# EAGLE library part MICRO_FIT_3.0_12_POS_RA (library UBCSolar)
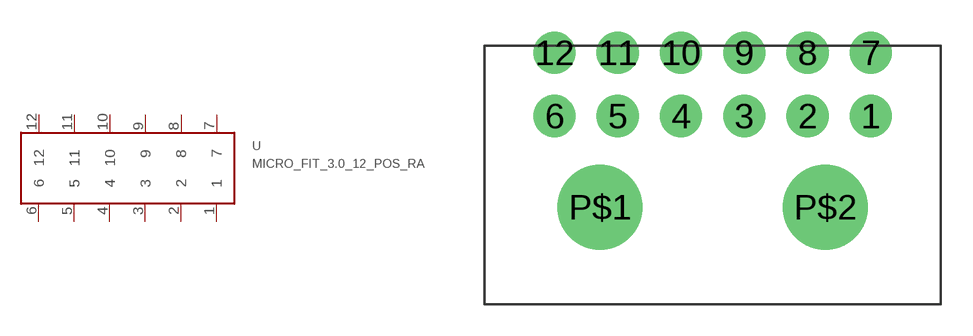
[diagram p9: symbol with the pads of MICRO_FIT_3.0_12POS_RA; footprint MICRO_FIT_3.0_12POS_RA]

Designator prefix -

## MICRO_FIT_3.0_12_POS_RA  [MICRO_FIT_3.0_12POS_RA]
1  1
2  2
3  3
4  4
5  5
6  6
7  7
8  8
9  9
10  10
11  11
12  12

## Footprint MICRO_FIT_3.0_12POS_RA (pad centres in mm)
Micro-Fit 3.0 12pos, right angle: https://www.digikey.ca/product-detail/en/4-794619-2/A115204-ND/2286935/?itemSeq=291249305
drill 1.02 pad 2: 1 7.5,-1.5; 2 4.5,-1.5; 3 1.5,-1.5; 4 -1.5,-1.5; 5 -4.5,-1.5; 6 -7.5,-1.5; 7 7.5,1.5; 8 4.5,1.5; 9 1.5,1.5; 10 -1.5,1.5; 11 -4.5,1.5; 12 -7.5,1.5
drill 3: P$1 -5.34,-5.82; P$2 5.34,-5.82